# Altium schematic symbol library PFNF.035.2.SchLib: 1 symbol
Pins are listed as number, name and electrical type; pins without a type are passive.

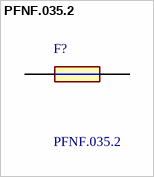
[diagram p0: symbol PFNF.035.2]

## PFNF.035.2
designator F?
PCB;Fuse;Fast;Resetable Schurter 0.35A Resettable Surface Mount Fuse, 6 V dc; Geometry.Height: 0.85mm; Mouser Part Number: 693-PFNF.035.2; Mouser Price/Stock: https://www.mouser.co.uk/ProductDetail/Schurter/PFNF0352?qs=1auRipcfynAU6bHG9P5yrg%3D%3D; Manufacturer_Name: SCHURTER; Manufacturer_Part_Number: PFNF.035.2; Datasheet Link: https://ch.schurter.com/en/datasheet/typ_PFNF.pdf
footprint FUSC3216X85N
pins: 1, 2